# Altium footprint library PowerSO-10.PcbLib: 1 footprints
Each footprint in its own frame and in the unit in brackets; x right, y up, seen from the top. Pads: shape width x height; smd on the part's side, far side on the other; paste and mask are expansions set on the pad; w line width, h text height; cw(c..) or ccw(c..) is an arc to the next point about the centre after c.
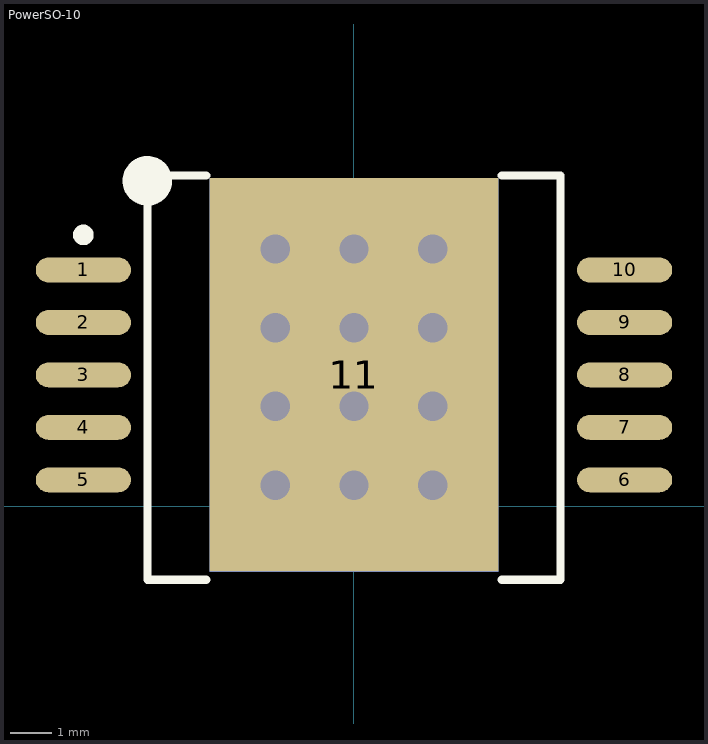
[diagram p0: the footprint, top view; thin cyan lines are the x and y axes]

## PowerSO-10 [mm]
pads (12):
  oval 2.3x0.6 smd: 1(-6.55,5.715) 2(-6.55,4.445) 3(-6.55,3.175) 4(-6.55,1.905) 5(-6.55,0.635) 6(6.55,0.635) 7(6.55,1.905) 8(6.55,3.175) 9(6.55,4.445) 10(6.55,5.715)
  rect 6.985x9.525 smd: 11(0,3.175)
  rect 6.985x9.525 smd far side: 11(0,3.175)
via 0,2.413 diameter 1.27 hole 0.711
via 1.905,6.223 diameter 1.27 hole 0.711
via -1.905,6.223 diameter 1.27 hole 0.711
via 0,6.223 diameter 1.27 hole 0.711
via 0,4.318 diameter 1.27 hole 0.711
via -1.905,4.318 diameter 1.27 hole 0.711
via 1.905,4.318 diameter 1.27 hole 0.711
via -1.905,2.413 diameter 1.27 hole 0.711
via 1.905,2.413 diameter 1.27 hole 0.711
via 0,0.508 diameter 1.27 hole 0.711
via -1.905,0.508 diameter 1.27 hole 0.711
via 1.905,0.508 diameter 1.27 hole 0.711
Top Overlay:
  circle w0.6: c-4.999,7.874 r0.3
  circle w0.25: c-6.55,6.565 r0.125
  lines w0.2: -3.575,-1.778 -5,-1.778 -5,8 -3.575,8 ; 3.575,-1.778 5,-1.778 5,8 3.575,8
Mechanical 15:
  lines w0.1: -0.5,0.508 0.5,0.508 ; 0,0.008 0,1.008
3D body: height 3.35, standoff 0, extent -6.95,-1.525 6.95,7.875